# Altium footprint library SamacSys.PcbLib: 32 footprints (part 2 of 2)
Each footprint in its own frame and in the unit in brackets; x right, y up, seen from the top. Pads: shape width x height; smd on the part's side, far side on the other; paste and mask are expansions set on the pad; w line width, h text height; cw(c..) or ccw(c..) is an arc to the next point about the centre after c.
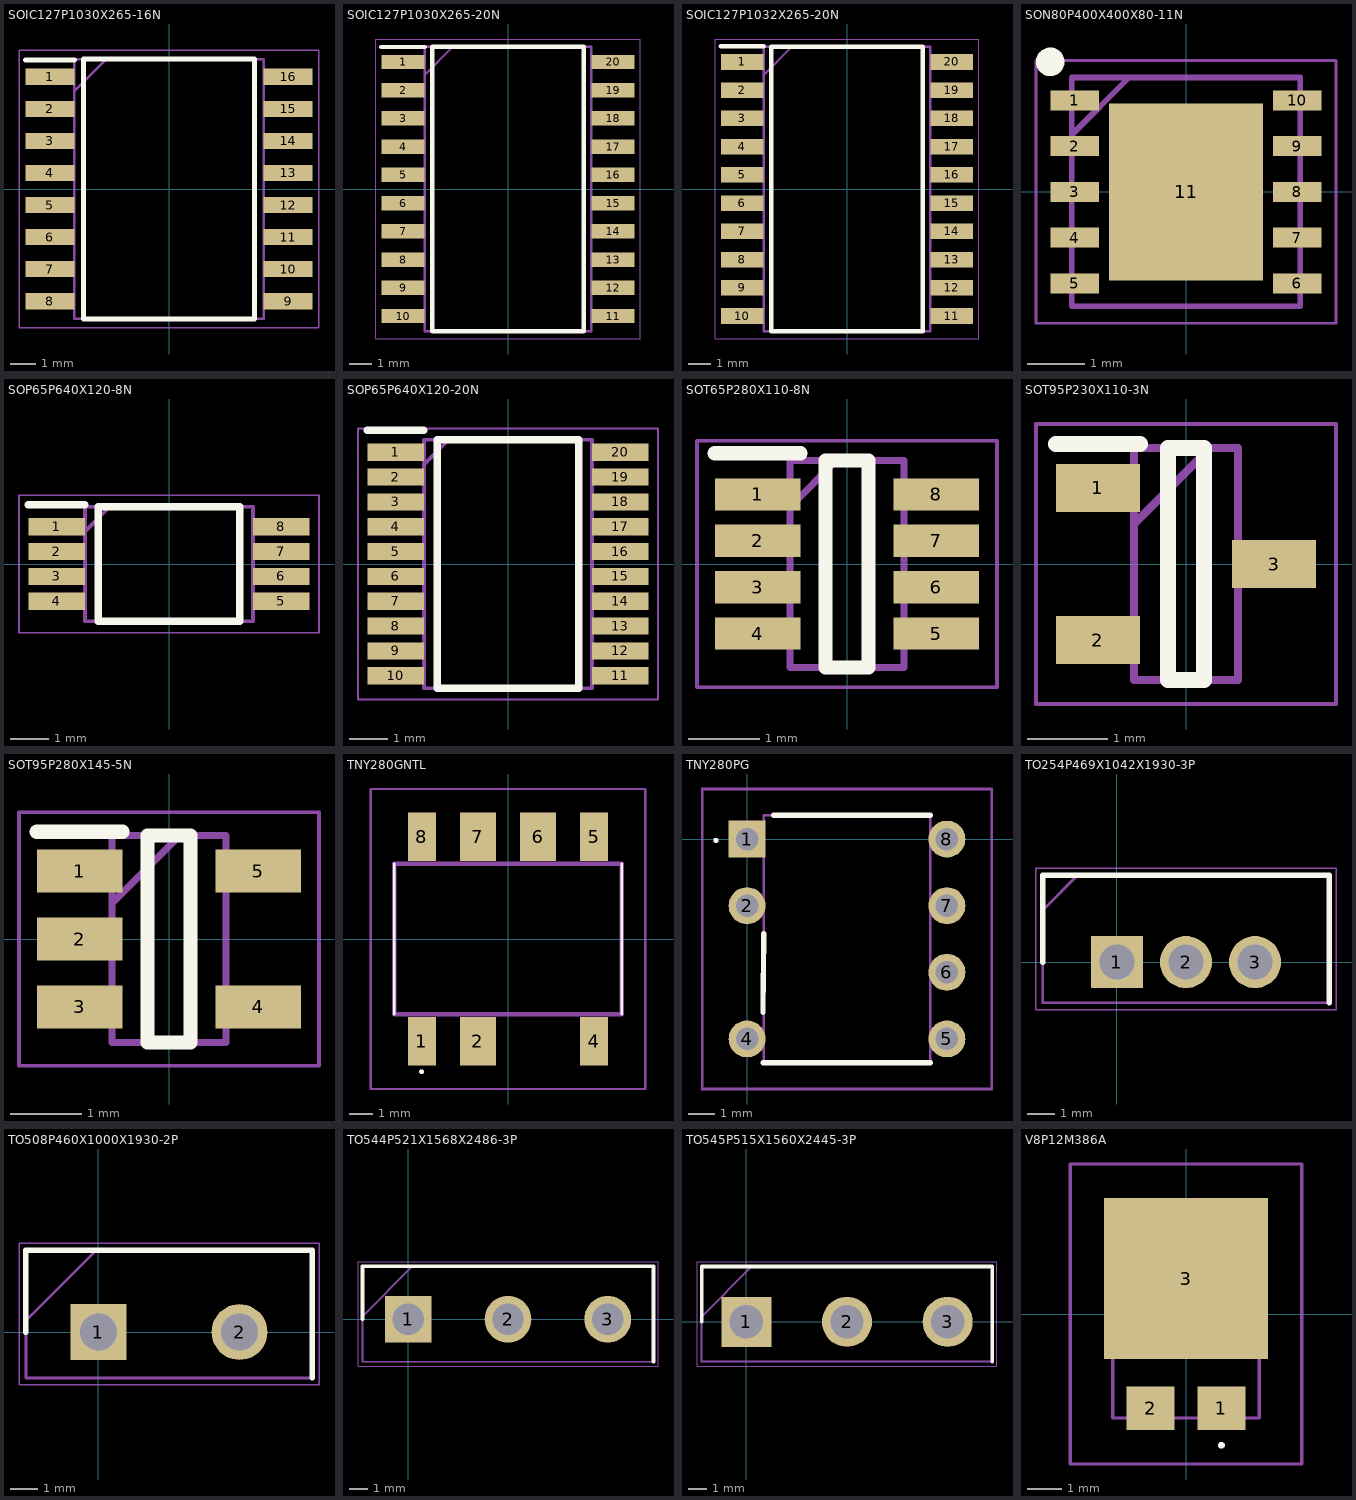
[diagram p1: the footprints below, top view; thin cyan lines are the x and y axes]

## SOIC127P1030X265-16N [mm]
pads (16):
  rect 1.95x0.65 smd: 1(-4.725,4.445) 2(-4.725,3.175) 3(-4.725,1.905) 4(-4.725,0.635) 5(-4.725,-0.635) 6(-4.725,-1.905) 7(-4.725,-3.175) 8(-4.725,-4.445) 9(4.725,-4.445) 10(4.725,-3.175) 11(4.725,-1.905) 12(4.725,-0.635) 13(4.725,0.635) 14(4.725,1.905) 15(4.725,3.175) 16(4.725,4.445)
Top Overlay:
  lines w0.2: -5.7,5.12 -3.75,5.12 ; -3.4,-5.15 -3.4,5.15 3.4,5.15 3.4,-5.15 -3.4,-5.15
Mechanical 13:
  lines w0.1: -3.75,3.88 -2.48,5.15 ; -3.75,-5.15 -3.75,5.15 3.75,5.15 3.75,-5.15 -3.75,-5.15
Mechanical 15:
  lines w0.05: -5.95,-5.5 -5.95,5.5 5.95,5.5 5.95,-5.5 -5.95,-5.5
3D body "UCC21542DWR.stp": height 2.59, standoff 0, extent -5.167,-5.15 5.167,5.15

## SOIC127P1030X265-20N [mm]
pads (20):
  rect 1.95x0.65 smd: 1(-4.725,5.715) 2(-4.725,4.445) 3(-4.725,3.175) 4(-4.725,1.905) 5(-4.725,0.635) 6(-4.725,-0.635) 7(-4.725,-1.905) 8(-4.725,-3.175) 9(-4.725,-4.445) 10(-4.725,-5.715) 11(4.725,-5.715) 12(4.725,-4.445) 13(4.725,-3.175) 14(4.725,-1.905) 15(4.725,-0.635) 16(4.725,0.635) 17(4.725,1.905) 18(4.725,3.175) 19(4.725,4.445) 20(4.725,5.715)
Top Overlay:
  lines w0.2: -5.7,6.39 -3.75,6.39 ; -3.4,-6.4 3.4,-6.4 3.4,6.4 -3.4,6.4 -3.4,-6.4
Mechanical 13:
  lines w0.1: -3.75,5.13 -2.48,6.4 ; -3.75,-6.4 3.75,-6.4 3.75,6.4 -3.75,6.4 -3.75,-6.4
Mechanical 15:
  lines w0.05: -5.95,-6.75 5.95,-6.75 5.95,6.75 -5.95,6.75 -5.95,-6.75
3D body "UCC28070DW.stp": height 1.75, standoff 0, extent -5.165,-6.4 5.165,6.4

## SOIC127P1032X265-20N [mm]
pads (20):
  rect 1.925x0.7 smd: 1(-4.712,5.715) 2(-4.712,4.445) 3(-4.712,3.175) 4(-4.712,1.905) 5(-4.712,0.635) 6(-4.712,-0.635) 7(-4.712,-1.905) 8(-4.712,-3.175) 9(-4.712,-4.445) 10(-4.712,-5.715) 11(4.712,-5.715) 12(4.712,-4.445) 13(4.712,-3.175) 14(4.712,-1.905) 15(4.712,-0.635) 16(4.712,0.635) 17(4.712,1.905) 18(4.712,3.175) 19(4.712,4.445) 20(4.712,5.715)
Top Overlay:
  lines w0.2: -5.675,6.415 -3.75,6.415 ; -3.4,-6.4 3.4,-6.4 3.4,6.4 -3.4,6.4 -3.4,-6.4
Mechanical 13:
  lines w0.1: -3.75,5.13 -2.48,6.4 ; -3.75,-6.4 3.75,-6.4 3.75,6.4 -3.75,6.4 -3.75,-6.4
Mechanical 15:
  lines w0.05: -5.925,-6.75 5.925,-6.75 5.925,6.75 -5.925,6.75 -5.925,-6.75
3D body "L4981AD.stp": height 2.65, standoff 0, extent -5.162,-6.4 5.162,6.4

## SON80P400X400X80-11N [mm]
pads (11):
  rect 0.85x0.35 smd: 1(-1.95,1.6) 2(-1.95,0.8) 3(-1.95,0) 4(-1.95,-0.8) 5(-1.95,-1.6) 6(1.95,-1.6) 7(1.95,-0.8) 8(1.95,0) 9(1.95,0.8) 10(1.95,1.6)
  rect 2.7x3.1 smd: 11(0,0)
Top Overlay:
  circle w0.25: c-2.375,2.275 r0.125
Mechanical 13:
  lines w0.1: -2,1 -1,2 ; -2,-2 -2,2 2,2 2,-2 -2,-2
Mechanical 15:
  lines w0.05: -2.625,-2.3 -2.625,2.3 2.625,2.3 2.625,-2.3 -2.625,-2.3
3D body "LM5113SDX_NOPB.stp": height 0.8, standoff 0, extent -2,-2 2,2

## SOP65P640X120-8N [mm]
pads (8):
  rect 1.475x0.45 smd: 1(-2.938,0.975) 2(-2.938,0.325) 3(-2.938,-0.325) 4(-2.938,-0.975) 5(2.938,-0.975) 6(2.938,-0.325) 7(2.938,0.325) 8(2.938,0.975)
Top Overlay:
  lines w0.2: -3.675,1.55 -2.2,1.55 ; -1.85,-1.5 -1.85,1.5 1.85,1.5 1.85,-1.5 -1.85,-1.5
Mechanical 13:
  lines w0.1: -2.2,0.85 -1.55,1.5 ; -2.2,-1.5 -2.2,1.5 2.2,1.5 2.2,-1.5 -2.2,-1.5
Mechanical 15:
  lines w0.05: -3.925,-1.8 -3.925,1.8 3.925,1.8 3.925,-1.8 -3.925,-1.8
3D body "INA240A2PW.stp": height 1.11, standoff 0.01, extent -3.21,-1.5 3.21,1.5

## SOP65P640X120-20N [mm]
pads (20):
  rect 1.475x0.45 smd: 1(-2.938,2.925) 2(-2.938,2.275) 3(-2.938,1.625) 4(-2.938,0.975) 5(-2.938,0.325) 6(-2.938,-0.325) 7(-2.938,-0.975) 8(-2.938,-1.625) 9(-2.938,-2.275) 10(-2.938,-2.925) 11(2.938,-2.925) 12(2.938,-2.275) 13(2.938,-1.625) 14(2.938,-0.975) 15(2.938,-0.325) 16(2.938,0.325) 17(2.938,0.975) 18(2.938,1.625) 19(2.938,2.275) 20(2.938,2.925)
Top Overlay:
  lines w0.2: -3.675,3.5 -2.2,3.5 ; -1.85,-3.25 1.85,-3.25 1.85,3.25 -1.85,3.25 -1.85,-3.25
Mechanical 13:
  lines w0.1: -2.2,2.6 -1.55,3.25 ; -2.2,-3.25 2.2,-3.25 2.2,3.25 -2.2,3.25 -2.2,-3.25
Mechanical 15:
  lines w0.05: -3.925,-3.55 3.925,-3.55 3.925,3.55 -3.925,3.55 -3.925,-3.55
3D body "UCC28070APW.stp": height 1.13, standoff 0, extent -3.2,-3.25 3.2,3.25

## SOT65P280X110-8N [mm]
pads (8):
  rect 1.2x0.45 smd: 1(-1.25,0.975) 2(-1.25,0.325) 3(-1.25,-0.325) 4(-1.25,-0.975) 5(1.25,-0.975) 6(1.25,-0.325) 7(1.25,0.325) 8(1.25,0.975)
Top Overlay:
  lines w0.2: -1.85,1.55 -0.65,1.55 ; -0.3,-1.45 -0.3,1.45 0.3,1.45 0.3,-1.45 -0.3,-1.45
Mechanical 13:
  lines w0.1: -0.8,0.8 -0.15,1.45 ; -0.8,-1.45 -0.8,1.45 0.8,1.45 0.8,-1.45 -0.8,-1.45
Mechanical 15:
  lines w0.05: -2.1,-1.725 -2.1,1.725 2.1,1.725 2.1,-1.725 -2.1,-1.725
3D body "TLV7022DDFR.stp": height 0.9, standoff 0, extent -1.41,-1.45 1.41,1.45

## SOT95P230X110-3N [mm]
pads (3):
  rect 1.05x0.6 smd: 1(-1.1,0.95) 2(-1.1,-0.95) 3(1.1,0)
Top Overlay:
  lines w0.2: -1.625,1.5 -0.575,1.5 ; -0.225,-1.45 0.225,-1.45 0.225,1.45 -0.225,1.45 -0.225,-1.45
Mechanical 13:
  lines w0.1: -0.65,0.5 0.3,1.45 ; -0.65,-1.45 0.65,-1.45 0.65,1.45 -0.65,1.45 -0.65,-1.45
Mechanical 15:
  lines w0.05: -1.875,-1.75 1.875,-1.75 1.875,1.75 -1.875,1.75 -1.875,-1.75
3D body "TL431MFDT,215.stp": height 0.95, standoff 0, extent -1.201,-1.448 1.199,1.452

## SOT95P280X145-5N [mm]
pads (5):
  rect 1.2x0.6 smd: 1(-1.25,0.95) 2(-1.25,0) 3(-1.25,-0.95) 4(1.25,-0.95) 5(1.25,0.95)
Top Overlay:
  lines w0.2: -1.85,1.5 -0.65,1.5 ; -0.3,-1.45 0.3,-1.45 0.3,1.45 -0.3,1.45 -0.3,-1.45
Mechanical 13:
  lines w0.1: -0.8,0.5 0.15,1.45 ; -0.8,-1.45 0.8,-1.45 0.8,1.45 -0.8,1.45 -0.8,-1.45
Mechanical 15:
  lines w0.05: -2.1,-1.775 2.1,-1.775 2.1,1.775 -2.1,1.775 -2.1,-1.775
3D body "LM4128AMF-3.0_NOPB.stp": height 1.2, standoff 0, extent -1.4,-1.45 1.4,1.45

## TNY280GNTL [mil]
pads (7):
  rect 45.98x80 smd: 1(-142.99,-170) 4(142.99,-170) 5(142.99,170) 8(-142.99,170)
  rect 60x80 smd: 2(-50,-170) 6(50,170) 7(-50,170)
Top Overlay:
  lines w3.94: -188.98,-125 -188.98,125 ; 188.98,-125 188.98,125 ; -145.67,-220.47 cw(c-143.7,-220.47) -141.73,-220.47 cw(c-143.7,-220.47) -145.67,-220.47
Mechanical 13:
  lines w7.87: -188.98,-125 188.98,-125 188.98,125 -188.98,125 -188.98,-125
Mechanical 15:
  lines w3.94: -228.35,-249.37 228.35,-249.37 228.35,249.37 -228.35,249.37 -228.35,-249.37

## TNY280PG [mm]
pads (7):
  rect 1.41x1.41 hole 0.86: 1(-0.01,0)
  round 1.41 hole 0.86: 2(-0.01,-2.54) 4(-0.01,-7.62) 5(7.61,-7.62) 6(7.61,-5.08) 7(7.61,-2.54) 8(7.61,0)
Top Overlay:
  lines w0.1: -1.2,-0.1 cw(c-1.2,-0.05) -1.2,0 cw(c-1.2,-0.05) -1.2,-0.1
  lines w0.2: 0.6,-8.53 6.975,-8.53 ; 0.6,-6.61 0.625,-3.61 ; 1,0.91 6.975,0.91
Mechanical 13:
  lines w0.1: 0.625,-8.53 6.975,-8.53 6.975,0.91 0.625,0.91 0.625,-8.53
Mechanical 15:
  lines w0.1: -1.715,-9.53 9.315,-9.53 9.315,1.91 -1.715,1.91 -1.715,-9.53
3D body "TNY280PG.stp": height 3.78, standoff -5, extent -0.337,-8.53 7.94,0.91

## TO254P469X1042X1930-3P [mm]
pads (3):
  rect 1.92x1.92 hole 1.28: 1(0,0)
  round 1.92 hole 1.28: 2(2.54,0) 3(5.08,0)
Top Overlay:
  lines w0.2: -2.73,0 -2.73,3.195 7.81,3.195 7.81,-1.495
Mechanical 13:
  lines w0.1: -2.73,1.925 -1.46,3.195 ; -2.73,-1.495 7.81,-1.495 7.81,3.195 -2.73,3.195 -2.73,-1.495
Mechanical 15:
  lines w0.05: -2.98,-1.745 8.06,-1.745 8.06,3.445 -2.98,3.445 -2.98,-1.745
3D body "IRF3205S.stp": height 18.84, standoff -17.51, extent -2.668,-1.495 7.748,3.195

## TO508P460X1000X1930-2P [mm]
pads (2):
  rect 2.01x2.01 hole 1.34: 1(0,0)
  round 2.01 hole 1.34: 2(5.08,0)
Top Overlay:
  lines w0.2: -2.61,0 -2.61,2.95 7.69,2.95 7.69,-1.65
Mechanical 13:
  lines w0.1: -2.61,0.41 -0.07,2.95 ; -2.61,-1.65 7.69,-1.65 7.69,2.95 -2.61,2.95 -2.61,-1.65
Mechanical 15:
  lines w0.05: -2.86,-1.9 7.94,-1.9 7.94,3.2 -2.86,3.2 -2.86,-1.9
3D body "BYV29FX-600,127.stp": height 18.55, standoff -18.2, extent -2.46,-1.65 7.54,2.95

## TO544P521X1568X2486-3P [mm]
pads (3):
  rect 2.55x2.55 hole 1.7: 1(0,0)
  round 2.55 hole 1.7: 2(5.44,0) 3(10.88,0)
Top Overlay:
  lines w0.2: -2.495,0 -2.495,2.895 13.375,2.895 13.375,-2.315
Mechanical 13:
  lines w0.1: -2.495,0.175 0.225,2.895 ; -2.495,-2.315 13.375,-2.315 13.375,2.895 -2.495,2.895 -2.495,-2.315
Mechanical 15:
  lines w0.05: -2.745,-2.565 13.625,-2.565 13.625,3.145 -2.745,3.145 -2.745,-2.565
3D body "IRFP460A.stp": height 24.61, standoff -41.1, extent -2.402,-2.315 13.283,2.895

## TO545P515X1560X2445-3P [mm]
pads (3):
  rect 2.715x2.715 hole 1.81: 1(0,0)
  round 2.715 hole 1.81: 2(5.45,0) 3(10.9,0)
Top Overlay:
  lines w0.2: -2.425,0 -2.425,3 13.325,3 13.325,-2.15
Mechanical 13:
  lines w0.1: -2.425,0.275 0.3,3 ; -2.425,-2.15 13.325,-2.15 13.325,3 -2.425,3 -2.425,-2.15
Mechanical 15:
  lines w0.05: -2.675,-2.4 13.575,-2.4 13.575,3.25 -2.675,3.25 -2.675,-2.4
3D body "IRFP460.stp": height 24, standoff -40, extent -2.35,-2.15 13.25,3

## V8P12M386A [mm]
pads (3):
  rect 1.4x1.27 smd: 1(1.04,-2.765) 2(-1.04,-2.765)
  rect 4.8x4.72 smd: 3(0,1.04)
Top Overlay:
  lines w0.1: 1.04,-3.9 ccw(c1.04,-3.85) 1.04,-3.8 ccw(c1.04,-3.85) 1.04,-3.9
Mechanical 13:
  lines w0.1: -2.15,-3.05 2.15,-3.05 2.15,3.05 -2.15,3.05 -2.15,-3.05
Mechanical 15:
  lines w0.1: -3.4,-4.4 3.4,-4.4 3.4,4.4 -3.4,4.4 -3.4,-4.4
3D body "V8P12-M3_86A.stp": height 1.3, standoff 0, extent -2.15,-3.273 2.15,3.05